# Altium schematic symbol library VCNL4200.SchLib: 1 symbol
Pins are listed as number, name and electrical type; pins without a type are passive.

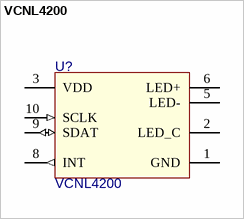
[diagram p0: symbol VCNL4200]

## VCNL4200
designator U?
High Sensitivity Long Distance Proximity and / Ambient Light Sensor With I2C Interface; Value: VCNL4200
footprint VCNL4200 (LGA, 10-Leads, Body 8.00x3.00mm, Pitch 1.70mm, IPC Medium Density)
pins: 1 GND (power), 2 LED_C (power), 3 VDD (power), 5 LED-, 6 LED+, 8 INT (out), 9 SDAT (io), 10 SCLK (in)